# EAGLE library part QPA2811 (library QPA2811)
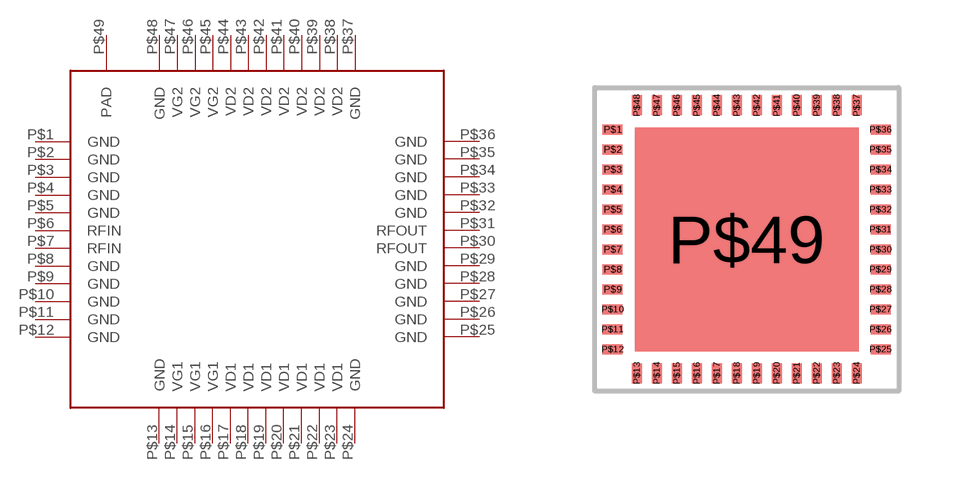
[diagram p0: symbol with the pads of QPA2811; footprint QPA2811]

Designator prefix -

## QPA2811  [QPA2811]
P$1  GND
P$2  GND
P$3  GND
P$4  GND
P$5  GND
P$6  RFIN
P$7  RFIN
P$8  GND
P$9  GND
P$10  GND
P$11  GND
P$12  GND
P$13  GND
P$14  VG1
P$15  VG1
P$16  VG1
P$17  VD1
P$18  VD1
P$19  VD1
P$20  VD1
P$21  VD1
P$22  VD1
P$23  VD1
P$24  GND
P$25  GND
P$26  GND
P$27  GND
P$28  GND
P$29  GND
P$30  RFOUT
P$31  RFOUT
P$32  GND
P$33  GND
P$34  GND
P$35  GND
P$36  GND
P$37  GND
P$38  VD2
P$39  VD2
P$40  VD2
P$41  VD2
P$42  VD2
P$43  VD2
P$44  VD2
P$45  VG2
P$46  VG2
P$47  VG2
P$48  GND
P$49  PAD

## Footprint QPA2811 (pad centres in mm)
smd 0.5 x 0.25: P$1 -3.35,2.75; P$2 -3.35,2.25; P$3 -3.35,1.75; P$4 -3.35,1.25; P$5 -3.35,0.75; P$6 -3.35,0.25; P$7 -3.35,-0.25; P$8 -3.35,-0.75; P$9 -3.35,-1.25; P$10 -3.35,-1.75; P$11 -3.35,-2.25; P$12 -3.35,-2.75; P$25 3.35,-2.75; P$26 3.35,-2.25; P$27 3.35,-1.75; P$28 3.35,-1.25; P$29 3.35,-0.75; P$30 3.35,-0.25; P$31 3.35,0.25; P$32 3.35,0.75; P$33 3.35,1.25; P$34 3.35,1.75; P$35 3.35,2.25; P$36 3.35,2.75
smd 0.25 x 0.5: P$13 -2.75,-3.35; P$14 -2.25,-3.35; P$15 -1.75,-3.35; P$16 -1.25,-3.35; P$17 -0.75,-3.35; P$18 -0.25,-3.35; P$19 0.25,-3.35; P$20 0.75,-3.35; P$21 1.25,-3.35; P$22 1.75,-3.35; P$23 2.25,-3.35; P$24 2.75,-3.35; P$37 2.75,3.35; P$38 2.25,3.35; P$39 1.75,3.35; P$40 1.25,3.35; P$41 0.75,3.35; P$42 0.25,3.35; P$43 -0.25,3.35; P$44 -0.75,3.35; P$45 -1.25,3.35; P$46 -1.75,3.35; P$47 -2.25,3.35; P$48 -2.75,3.35
smd 5.6 x 5.6: P$49 0,0